# Altium footprint library IPC-7353 SOP_127P_M.PcbLib: 16 footprints
Each footprint in its own frame and in the unit in brackets; x right, y up, seen from the top. Pads: shape width x height; smd on the part's side, far side on the other; paste and mask are expansions set on the pad; w line width, h text height; cw(c..) or ccw(c..) is an arc to the next point about the centre after c.
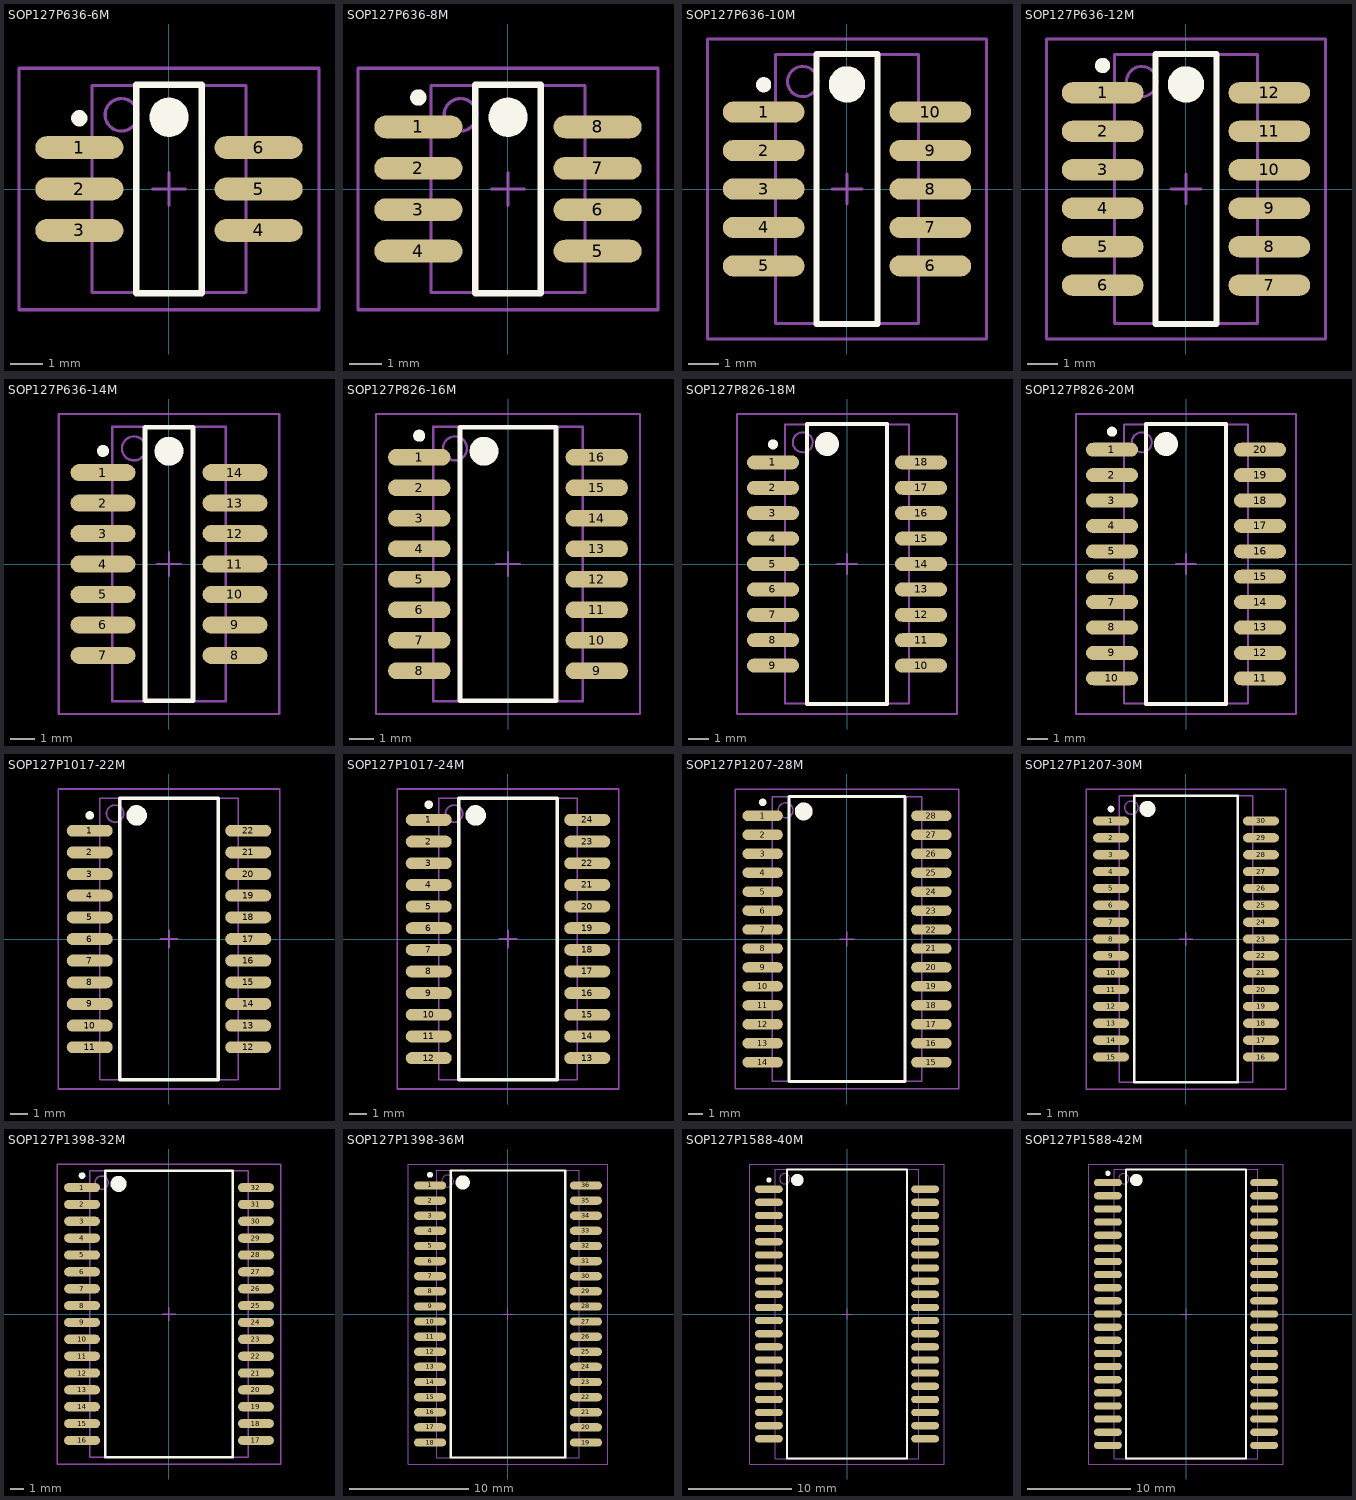
[diagram p0: the footprints below, top view; thin cyan lines are the x and y axes]

## SOP127P636-6M [mm] "SOP, 6-Leads, Body 6x4.7mm, Pitch 1.27mm, IPC Low Density"
height 1.5
pads (6):
  oval 2.7x0.7 smd: 1(-2.75,1.27) 2(-2.75,0) 3(-2.75,-1.27) 4(2.75,-1.27) 5(2.75,0) 6(2.75,1.27)
Top Overlay:
  circle w0.6: c0,2.2 r0.3
  circle w0.25: c-2.75,2.17 r0.125
  lines w0.2: -1,-3.2 1,-3.2 1,3.2 -1,3.2 -1,-3.2
Mechanical 13:
  circle w0.1: c-1.46,2.275 r0.5
  lines w0.1: -2.36,-3.175 2.36,-3.175 2.36,3.175 -2.36,3.175 -2.36,-3.175
Mechanical 15:
  lines w0.1: -0.5,0 0.5,0 ; 0,-0.5 0,0.5 ; -4.6,-3.7 4.6,-3.7 4.6,3.7 -4.6,3.7 -4.6,-3.7
3D body: height 1.5, standoff 0, extent -2.36,-3.175 2.36,3.175

## SOP127P636-8M [mm] "SOP, 8-Leads, Body 6x4.7mm, Pitch 1.27mm, IPC Low Density"
height 1.5
pads (8):
  oval 2.7x0.7 smd: 1(-2.75,1.905) 2(-2.75,0.635) 3(-2.75,-0.635) 4(-2.75,-1.905) 5(2.75,-1.905) 6(2.75,-0.635) 7(2.75,0.635) 8(2.75,1.905)
Top Overlay:
  circle w0.6: c0,2.2 r0.3
  circle w0.25: c-2.75,2.805 r0.125
  lines w0.2: -1,-3.2 1,-3.2 1,3.2 -1,3.2 -1,-3.2
Mechanical 13:
  circle w0.1: c-1.46,2.275 r0.5
  lines w0.1: -2.36,-3.175 2.36,-3.175 2.36,3.175 -2.36,3.175 -2.36,-3.175
Mechanical 15:
  lines w0.1: -0.5,0 0.5,0 ; 0,-0.5 0,0.5 ; -4.6,-3.7 4.6,-3.7 4.6,3.7 -4.6,3.7 -4.6,-3.7
3D body: height 1.5, standoff 0, extent -2.36,-3.175 2.36,3.175

## SOP127P636-10M [mm] "SOP, 10-Leads, Body 8.5x4.7mm, Pitch 1.27mm, IPC Low Density"
height 1.5
pads (10):
  oval 2.7x0.7 smd: 1(-2.75,2.54) 2(-2.75,1.27) 3(-2.75,0) 4(-2.75,-1.27) 5(-2.75,-2.54) 6(2.75,-2.54) 7(2.75,-1.27) 8(2.75,0) 9(2.75,1.27) 10(2.75,2.54)
Top Overlay:
  circle w0.6: c0,3.45 r0.3
  circle w0.25: c-2.75,3.44 r0.125
  lines w0.2: -1,-4.45 1,-4.45 1,4.45 -1,4.45 -1,-4.45
Mechanical 13:
  circle w0.1: c-1.46,3.545 r0.5
  lines w0.1: -2.36,-4.445 2.36,-4.445 2.36,4.445 -2.36,4.445 -2.36,-4.445
Mechanical 15:
  lines w0.1: -0.5,0 0.5,0 ; 0,-0.5 0,0.5 ; -4.6,-4.95 4.6,-4.95 4.6,4.95 -4.6,4.95 -4.6,-4.95
3D body: height 1.5, standoff 0, extent -2.36,-4.445 2.36,4.445

## SOP127P636-12M [mm] "SOP, 12-Leads, Body 8.5x4.7mm, Pitch 1.27mm, IPC Low Density"
height 1.5
pads (12):
  oval 2.7x0.7 smd: 1(-2.75,3.175) 2(-2.75,1.905) 3(-2.75,0.635) 4(-2.75,-0.635) 5(-2.75,-1.905) 6(-2.75,-3.175) 7(2.75,-3.175) 8(2.75,-1.905) 9(2.75,-0.635) 10(2.75,0.635) 11(2.75,1.905) 12(2.75,3.175)
Top Overlay:
  circle w0.6: c0,3.45 r0.3
  circle w0.25: c-2.75,4.075 r0.125
  lines w0.2: -1,-4.45 1,-4.45 1,4.45 -1,4.45 -1,-4.45
Mechanical 13:
  circle w0.1: c-1.46,3.545 r0.5
  lines w0.1: -2.36,-4.445 2.36,-4.445 2.36,4.445 -2.36,4.445 -2.36,-4.445
Mechanical 15:
  lines w0.1: -0.5,0 0.5,0 ; 0,-0.5 0,0.5 ; -4.6,-4.95 4.6,-4.95 4.6,4.95 -4.6,4.95 -4.6,-4.95
3D body: height 1.5, standoff 0, extent -2.36,-4.445 2.36,4.445

## SOP127P636-14M [mm] "SOP, 14-Leads, Body 11x4.7mm, Pitch 1.27mm, IPC Low Density"
height 1.5
pads (14):
  oval 2.7x0.7 smd: 1(-2.75,3.81) 2(-2.75,2.54) 3(-2.75,1.27) 4(-2.75,0) 5(-2.75,-1.27) 6(-2.75,-2.54) 7(-2.75,-3.81) 8(2.75,-3.81) 9(2.75,-2.54) 10(2.75,-1.27) 11(2.75,0) 12(2.75,1.27) 13(2.75,2.54) 14(2.75,3.81)
Top Overlay:
  circle w0.6: c0,4.7 r0.3
  circle w0.25: c-2.75,4.71 r0.125
  lines w0.2: -1,-5.7 1,-5.7 1,5.7 -1,5.7 -1,-5.7
Mechanical 13:
  circle w0.1: c-1.46,4.815 r0.5
  lines w0.1: -2.36,-5.715 2.36,-5.715 2.36,5.715 -2.36,5.715 -2.36,-5.715
Mechanical 15:
  lines w0.1: -0.5,0 0.5,0 ; 0,-0.5 0,0.5 ; -4.6,-6.25 4.6,-6.25 4.6,6.25 -4.6,6.25 -4.6,-6.25
3D body: height 1.5, standoff 0, extent -2.36,-5.715 2.36,5.715

## SOP127P826-16M [mm] "SOP, 16-Leads, Body 11x6.2mm, Pitch 1.27mm, IPC Low Density"
height 2
pads (16):
  oval 2.6x0.7 smd: 1(-3.7,4.445) 2(-3.7,3.175) 3(-3.7,1.905) 4(-3.7,0.635) 5(-3.7,-0.635) 6(-3.7,-1.905) 7(-3.7,-3.175) 8(-3.7,-4.445) 9(3.7,-4.445) 10(3.7,-3.175) 11(3.7,-1.905) 12(3.7,-0.635) 13(3.7,0.635) 14(3.7,1.905) 15(3.7,3.175) 16(3.7,4.445)
Top Overlay:
  circle w0.25: c-3.7,5.345 r0.125
  circle w0.6: c-1,4.7 r0.3
  lines w0.2: -2,-5.7 -2,5.7 2,5.7 2,-5.7 -2,-5.7
Mechanical 13:
  circle w0.1: c-2.21,4.815 r0.5
  lines w0.1: -3.11,-5.715 -3.11,5.715 3.11,5.715 3.11,-5.715 -3.11,-5.715
Mechanical 15:
  lines w0.1: -0.5,0 0.5,0 ; 0,-0.5 0,0.5 ; -5.5,-6.25 -5.5,6.25 5.5,6.25 5.5,-6.25 -5.5,-6.25
3D body: height 2, standoff 0, extent -3.11,-5.715 3.11,5.715

## SOP127P826-18M [mm] "SOP, 18-Leads, Body 13.4x6.2mm, Pitch 1.27mm, IPC Low Density"
height 2
pads (18):
  oval 2.6x0.7 smd: 1(-3.7,5.08) 2(-3.7,3.81) 3(-3.7,2.54) 4(-3.7,1.27) 5(-3.7,0) 6(-3.7,-1.27) 7(-3.7,-2.54) 8(-3.7,-3.81) 9(-3.7,-5.08) 10(3.7,-5.08) 11(3.7,-3.81) 12(3.7,-2.54) 13(3.7,-1.27) 14(3.7,0) 15(3.7,1.27) 16(3.7,2.54) 17(3.7,3.81) 18(3.7,5.08)
Top Overlay:
  circle w0.6: c-1,6 r0.3
  circle w0.25: c-3.7,5.98 r0.125
  lines w0.2: -2,-7 2,-7 2,7 -2,7 -2,-7
Mechanical 13:
  circle w0.1: c-2.21,6.085 r0.5
  lines w0.1: -3.11,-6.985 3.11,-6.985 3.11,6.985 -3.11,6.985 -3.11,-6.985
Mechanical 15:
  lines w0.1: -0.5,0 0.5,0 ; 0,-0.5 0,0.5 ; -5.5,-7.5 5.5,-7.5 5.5,7.5 -5.5,7.5 -5.5,-7.5
3D body: height 2, standoff 0, extent -3.11,-6.985 3.11,6.985

## SOP127P826-20M [mm] "SOP, 20-Leads, Body 13.4x6.2mm, Pitch 1.27mm, IPC Low Density"
height 2
pads (20):
  oval 2.6x0.7 smd: 1(-3.7,5.715) 2(-3.7,4.445) 3(-3.7,3.175) 4(-3.7,1.905) 5(-3.7,0.635) 6(-3.7,-0.635) 7(-3.7,-1.905) 8(-3.7,-3.175) 9(-3.7,-4.445) 10(-3.7,-5.715) 11(3.7,-5.715) 12(3.7,-4.445) 13(3.7,-3.175) 14(3.7,-1.905) 15(3.7,-0.635) 16(3.7,0.635) 17(3.7,1.905) 18(3.7,3.175) 19(3.7,4.445) 20(3.7,5.715)
Top Overlay:
  circle w0.6: c-1,6 r0.3
  circle w0.25: c-3.7,6.615 r0.125
  lines w0.2: -2,-7 2,-7 2,7 -2,7 -2,-7
Mechanical 13:
  circle w0.1: c-2.21,6.085 r0.5
  lines w0.1: -3.11,-6.985 3.11,-6.985 3.11,6.985 -3.11,6.985 -3.11,-6.985
Mechanical 15:
  lines w0.1: -0.5,0 0.5,0 ; 0,-0.5 0,0.5 ; -5.5,-7.5 5.5,-7.5 5.5,7.5 -5.5,7.5 -5.5,-7.5
3D body: height 2, standoff 0, extent -3.11,-6.985 3.11,6.985

## SOP127P1017-22M [mm] "SOP, 22-Leads, Body 15.6x8.1mm, Pitch 1.27mm, IPC Low Density"
height 2.5
pads (22):
  oval 2.7x0.7 smd: 1(-4.65,6.35) 2(-4.65,5.08) 3(-4.65,3.81) 4(-4.65,2.54) 5(-4.65,1.27) 6(-4.65,0) 7(-4.65,-1.27) 8(-4.65,-2.54) 9(-4.65,-3.81) 10(-4.65,-5.08) 11(-4.65,-6.35) 12(4.65,-6.35) 13(4.65,-5.08) 14(4.65,-3.81) 15(4.65,-2.54) 16(4.65,-1.27) 17(4.65,0) 18(4.65,1.27) 19(4.65,2.54) 20(4.65,3.81) 21(4.65,5.08) 22(4.65,6.35)
Top Overlay:
  circle w0.6: c-1.9,7.25 r0.3
  circle w0.25: c-4.65,7.25 r0.125
  lines w0.2: -2.9,-8.25 2.9,-8.25 2.9,8.25 -2.9,8.25 -2.9,-8.25
Mechanical 13:
  circle w0.1: c-3.165,7.355 r0.5
  lines w0.1: -4.065,-8.255 4.065,-8.255 4.065,8.255 -4.065,8.255 -4.065,-8.255
Mechanical 15:
  lines w0.1: -0.5,0 0.5,0 ; 0,-0.5 0,0.5 ; -6.5,-8.8 6.5,-8.8 6.5,8.8 -6.5,8.8 -6.5,-8.8
3D body: height 2.5, standoff 0, extent -4.065,-8.255 4.065,8.255

## SOP127P1017-24M [mm] "SOP, 24-Leads, Body 15.6x8.1mm, Pitch 1.27mm, IPC Low Density"
height 2.5
pads (24):
  oval 2.7x0.7 smd: 1(-4.65,6.985) 2(-4.65,5.715) 3(-4.65,4.445) 4(-4.65,3.175) 5(-4.65,1.905) 6(-4.65,0.635) 7(-4.65,-0.635) 8(-4.65,-1.905) 9(-4.65,-3.175) 10(-4.65,-4.445) 11(-4.65,-5.715) 12(-4.65,-6.985) 13(4.65,-6.985) 14(4.65,-5.715) 15(4.65,-4.445) 16(4.65,-3.175) 17(4.65,-1.905) 18(4.65,-0.635) 19(4.65,0.635) 20(4.65,1.905) 21(4.65,3.175) 22(4.65,4.445) 23(4.65,5.715) 24(4.65,6.985)
Top Overlay:
  circle w0.6: c-1.9,7.25 r0.3
  circle w0.25: c-4.65,7.885 r0.125
  lines w0.2: -2.9,-8.25 2.9,-8.25 2.9,8.25 -2.9,8.25 -2.9,-8.25
Mechanical 13:
  circle w0.1: c-3.165,7.355 r0.5
  lines w0.1: -4.065,-8.255 4.065,-8.255 4.065,8.255 -4.065,8.255 -4.065,-8.255
Mechanical 15:
  lines w0.1: -0.5,0 0.5,0 ; 0,-0.5 0,0.5 ; -6.5,-8.8 6.5,-8.8 6.5,8.8 -6.5,8.8 -6.5,-8.8
3D body: height 2.5, standoff 0, extent -4.065,-8.255 4.065,8.255

## SOP127P1207-28M [mm] "SOP, 28-Leads, Body 18.2x10mm, Pitch 1.27mm, IPC Low Density"
height 3
pads (28):
  oval 2.7x0.7 smd: 1(-5.65,8.255) 2(-5.65,6.985) 3(-5.65,5.715) 4(-5.65,4.445) 5(-5.65,3.175) 6(-5.65,1.905) 7(-5.65,0.635) 8(-5.65,-0.635) 9(-5.65,-1.905) 10(-5.65,-3.175) 11(-5.65,-4.445) 12(-5.65,-5.715) 13(-5.65,-6.985) 14(-5.65,-8.255) 15(5.65,-8.255) 16(5.65,-6.985) 17(5.65,-5.715) 18(5.65,-4.445) 19(5.65,-3.175) 20(5.65,-1.905) 21(5.65,-0.635) 22(5.65,0.635) 23(5.65,1.905) 24(5.65,3.175) 25(5.65,4.445) 26(5.65,5.715) 27(5.65,6.985) 28(5.65,8.255)
Top Overlay:
  circle w0.6: c-2.9,8.55 r0.3
  circle w0.25: c-5.65,9.155 r0.125
  lines w0.2: -3.9,-9.55 3.9,-9.55 3.9,9.55 -3.9,9.55 -3.9,-9.55
Mechanical 13:
  circle w0.1: c-4.115,8.625 r0.5
  lines w0.1: -5.015,-9.525 5.015,-9.525 5.015,9.525 -5.015,9.525 -5.015,-9.525
Mechanical 15:
  lines w0.1: -0.5,0 0.5,0 ; 0,-0.5 0,0.5 ; -7.5,-10.05 7.5,-10.05 7.5,10.05 -7.5,10.05 -7.5,-10.05
3D body: height 3, standoff 0, extent -5.015,-9.525 5.015,9.525

## SOP127P1207-30M [mm] "SOP, 30-Leads, Body 20.7x10mm, Pitch 1.27mm, IPC Low Density"
height 3
pads (30):
  oval 2.7x0.7 smd: 1(-5.65,8.89) 2(-5.65,7.62) 3(-5.65,6.35) 4(-5.65,5.08) 5(-5.65,3.81) 6(-5.65,2.54) 7(-5.65,1.27) 8(-5.65,0) 9(-5.65,-1.27) 10(-5.65,-2.54) 11(-5.65,-3.81) 12(-5.65,-5.08) 13(-5.65,-6.35) 14(-5.65,-7.62) 15(-5.65,-8.89) 16(5.65,-8.89) 17(5.65,-7.62) 18(5.65,-6.35) 19(5.65,-5.08) 20(5.65,-3.81) 21(5.65,-2.54) 22(5.65,-1.27) 23(5.65,0) 24(5.65,1.27) 25(5.65,2.54) 26(5.65,3.81) 27(5.65,5.08) 28(5.65,6.35) 29(5.65,7.62) 30(5.65,8.89)
Top Overlay:
  circle w0.6: c-2.9,9.8 r0.3
  circle w0.25: c-5.65,9.79 r0.125
  lines w0.2: -3.9,-10.8 3.9,-10.8 3.9,10.8 -3.9,10.8 -3.9,-10.8
Mechanical 13:
  circle w0.1: c-4.115,9.895 r0.5
  lines w0.1: -5.015,-10.795 5.015,-10.795 5.015,10.795 -5.015,10.795 -5.015,-10.795
Mechanical 15:
  lines w0.1: -0.5,0 0.5,0 ; 0,-0.5 0,0.5 ; -7.5,-11.3 7.5,-11.3 7.5,11.3 -7.5,11.3 -7.5,-11.3
3D body: height 3, standoff 0, extent -5.015,-10.795 5.015,10.795

## SOP127P1398-32M [mm] "SOP, 32-Leads, Body 20.7x11.9mm, Pitch 1.27mm, IPC Low Density"
height 3.5
pads (32):
  oval 2.7x0.7 smd: 1(-6.55,9.525) 2(-6.55,8.255) 3(-6.55,6.985) 4(-6.55,5.715) 5(-6.55,4.445) 6(-6.55,3.175) 7(-6.55,1.905) 8(-6.55,0.635) 9(-6.55,-0.635) 10(-6.55,-1.905) 11(-6.55,-3.175) 12(-6.55,-4.445) 13(-6.55,-5.715) 14(-6.55,-6.985) 15(-6.55,-8.255) 16(-6.55,-9.525) 17(6.55,-9.525) 18(6.55,-8.255) 19(6.55,-6.985) 20(6.55,-5.715) 21(6.55,-4.445) 22(6.55,-3.175) 23(6.55,-1.905) 24(6.55,-0.635) 25(6.55,0.635) 26(6.55,1.905) 27(6.55,3.175) 28(6.55,4.445) 29(6.55,5.715) 30(6.55,6.985) 31(6.55,8.255) 32(6.55,9.525)
Top Overlay:
  circle w0.6: c-3.8,9.8 r0.3
  circle w0.25: c-6.55,10.425 r0.125
  lines w0.2: -4.8,-10.8 4.8,-10.8 4.8,10.8 -4.8,10.8 -4.8,-10.8
Mechanical 13:
  circle w0.1: c-5.07,9.895 r0.5
  lines w0.1: -5.97,-10.795 5.97,-10.795 5.97,10.795 -5.97,10.795 -5.97,-10.795
Mechanical 15:
  lines w0.1: -0.5,0 0.5,0 ; 0,-0.5 0,0.5 ; -8.4,-11.3 8.4,-11.3 8.4,11.3 -8.4,11.3 -8.4,-11.3
3D body: height 3.5, standoff 0, extent -5.97,-10.795 5.97,10.795

## SOP127P1398-36M [mm] "SOP, 36-Leads, Body 23.2x11.9mm, Pitch 1.27mm, IPC Low Density"
height 3.5
pads (36):
  oval 2.7x0.7 smd: 1(-6.55,10.795) 2(-6.55,9.525) 3(-6.55,8.255) 4(-6.55,6.985) 5(-6.55,5.715) 6(-6.55,4.445) 7(-6.55,3.175) 8(-6.55,1.905) 9(-6.55,0.635) 10(-6.55,-0.635) 11(-6.55,-1.905) 12(-6.55,-3.175) 13(-6.55,-4.445) 14(-6.55,-5.715) 15(-6.55,-6.985) 16(-6.55,-8.255) 17(-6.55,-9.525) 18(-6.55,-10.795) 19(6.55,-10.795) 20(6.55,-9.525) 21(6.55,-8.255) 22(6.55,-6.985) 23(6.55,-5.715) 24(6.55,-4.445) 25(6.55,-3.175) 26(6.55,-1.905) 27(6.55,-0.635) 28(6.55,0.635) 29(6.55,1.905) 30(6.55,3.175) 31(6.55,4.445) 32(6.55,5.715) 33(6.55,6.985) 34(6.55,8.255) 35(6.55,9.525) 36(6.55,10.795)
Top Overlay:
  circle w0.6: c-3.8,11.05 r0.3
  circle w0.25: c-6.55,11.695 r0.125
  lines w0.2: -4.8,-12.05 4.8,-12.05 4.8,12.05 -4.8,12.05 -4.8,-12.05
Mechanical 13:
  circle w0.1: c-5.07,11.165 r0.5
  lines w0.1: -5.97,-12.065 5.97,-12.065 5.97,12.065 -5.97,12.065 -5.97,-12.065
Mechanical 15:
  lines w0.1: -0.5,0 0.5,0 ; 0,-0.5 0,0.5 ; -8.4,-12.6 8.4,-12.6 8.4,12.6 -8.4,12.6 -8.4,-12.6
3D body: height 3.5, standoff 0, extent -5.97,-12.065 5.97,12.065

## SOP127P1588-40M [mm] "SOP, 40-Leads, Body 27x13.8mm, Pitch 1.27mm, IPC Low Density"
height 4
pads (40):
  oval 2.7x0.7 smd: 1(-7.55,12.065) 2(-7.55,10.795) 3(-7.55,9.525) 4(-7.55,8.255) 5(-7.55,6.985) 6(-7.55,5.715) 7(-7.55,4.445) 8(-7.55,3.175) 9(-7.55,1.905) 10(-7.55,0.635) 11(-7.55,-0.635) 12(-7.55,-1.905) 13(-7.55,-3.175) 14(-7.55,-4.445) 15(-7.55,-5.715) 16(-7.55,-6.985) 17(-7.55,-8.255) 18(-7.55,-9.525) 19(-7.55,-10.795) 20(-7.55,-12.065) 21(7.55,-12.065) 22(7.55,-10.795) 23(7.55,-9.525) 24(7.55,-8.255) 25(7.55,-6.985) 26(7.55,-5.715) 27(7.55,-4.445) 28(7.55,-3.175) 29(7.55,-1.905) 30(7.55,-0.635) 31(7.55,0.635) 32(7.55,1.905) 33(7.55,3.175) 34(7.55,4.445) 35(7.55,5.715) 36(7.55,6.985) 37(7.55,8.255) 38(7.55,9.525) 39(7.55,10.795) 40(7.55,12.065)
Top Overlay:
  circle w0.6: c-4.8,12.95 r0.3
  circle w0.25: c-7.55,12.965 r0.125
  lines w0.2: -5.8,-13.95 5.8,-13.95 5.8,13.95 -5.8,13.95 -5.8,-13.95
Mechanical 13:
  circle w0.1: c-6.02,13.07 r0.5
  lines w0.1: -6.92,-13.97 6.92,-13.97 6.92,13.97 -6.92,13.97 -6.92,-13.97
Mechanical 15:
  lines w0.1: -0.5,0 0.5,0 ; 0,-0.5 0,0.5 ; -9.4,-14.5 9.4,-14.5 9.4,14.5 -9.4,14.5 -9.4,-14.5
3D body: height 4, standoff 0, extent -6.92,-13.97 6.92,13.97

## SOP127P1588-42M [mm] "SOP, 42-Leads, Body 27x13.8mm, Pitch 1.27mm, IPC Low Density"
height 4
pads (42):
  oval 2.7x0.7 smd: 1(-7.55,12.7) 2(-7.55,11.43) 3(-7.55,10.16) 4(-7.55,8.89) 5(-7.55,7.62) 6(-7.55,6.35) 7(-7.55,5.08) 8(-7.55,3.81) 9(-7.55,2.54) 10(-7.55,1.27) 11(-7.55,0) 12(-7.55,-1.27) 13(-7.55,-2.54) 14(-7.55,-3.81) 15(-7.55,-5.08) 16(-7.55,-6.35) 17(-7.55,-7.62) 18(-7.55,-8.89) 19(-7.55,-10.16) 20(-7.55,-11.43) 21(-7.55,-12.7) 22(7.55,-12.7) 23(7.55,-11.43) 24(7.55,-10.16) 25(7.55,-8.89) 26(7.55,-7.62) 27(7.55,-6.35) 28(7.55,-5.08) 29(7.55,-3.81) 30(7.55,-2.54) 31(7.55,-1.27) 32(7.55,0) 33(7.55,1.27) 34(7.55,2.54) 35(7.55,3.81) 36(7.55,5.08) 37(7.55,6.35) 38(7.55,7.62) 39(7.55,8.89) 40(7.55,10.16) 41(7.55,11.43) 42(7.55,12.7)
Top Overlay:
  circle w0.6: c-4.8,12.95 r0.3
  circle w0.25: c-7.55,13.6 r0.125
  lines w0.2: -5.8,-13.95 5.8,-13.95 5.8,13.95 -5.8,13.95 -5.8,-13.95
Mechanical 13:
  circle w0.1: c-6.02,13.07 r0.5
  lines w0.1: -6.92,-13.97 6.92,-13.97 6.92,13.97 -6.92,13.97 -6.92,-13.97
Mechanical 15:
  lines w0.1: -0.5,0 0.5,0 ; 0,-0.5 0,0.5 ; -9.4,-14.5 9.4,-14.5 9.4,14.5 -9.4,14.5 -9.4,-14.5
3D body: height 4, standoff 0, extent -6.92,-13.97 6.92,13.97